# Altium footprint library SO.PcbLib: 20 footprints (part 1 of 2)
Each footprint in its own frame and in the unit in brackets; x right, y up, seen from the top. Pads: shape width x height; smd on the part's side, far side on the other; paste and mask are expansions set on the pad; w line width, h text height; cw(c..) or ccw(c..) is an arc to the next point about the centre after c.
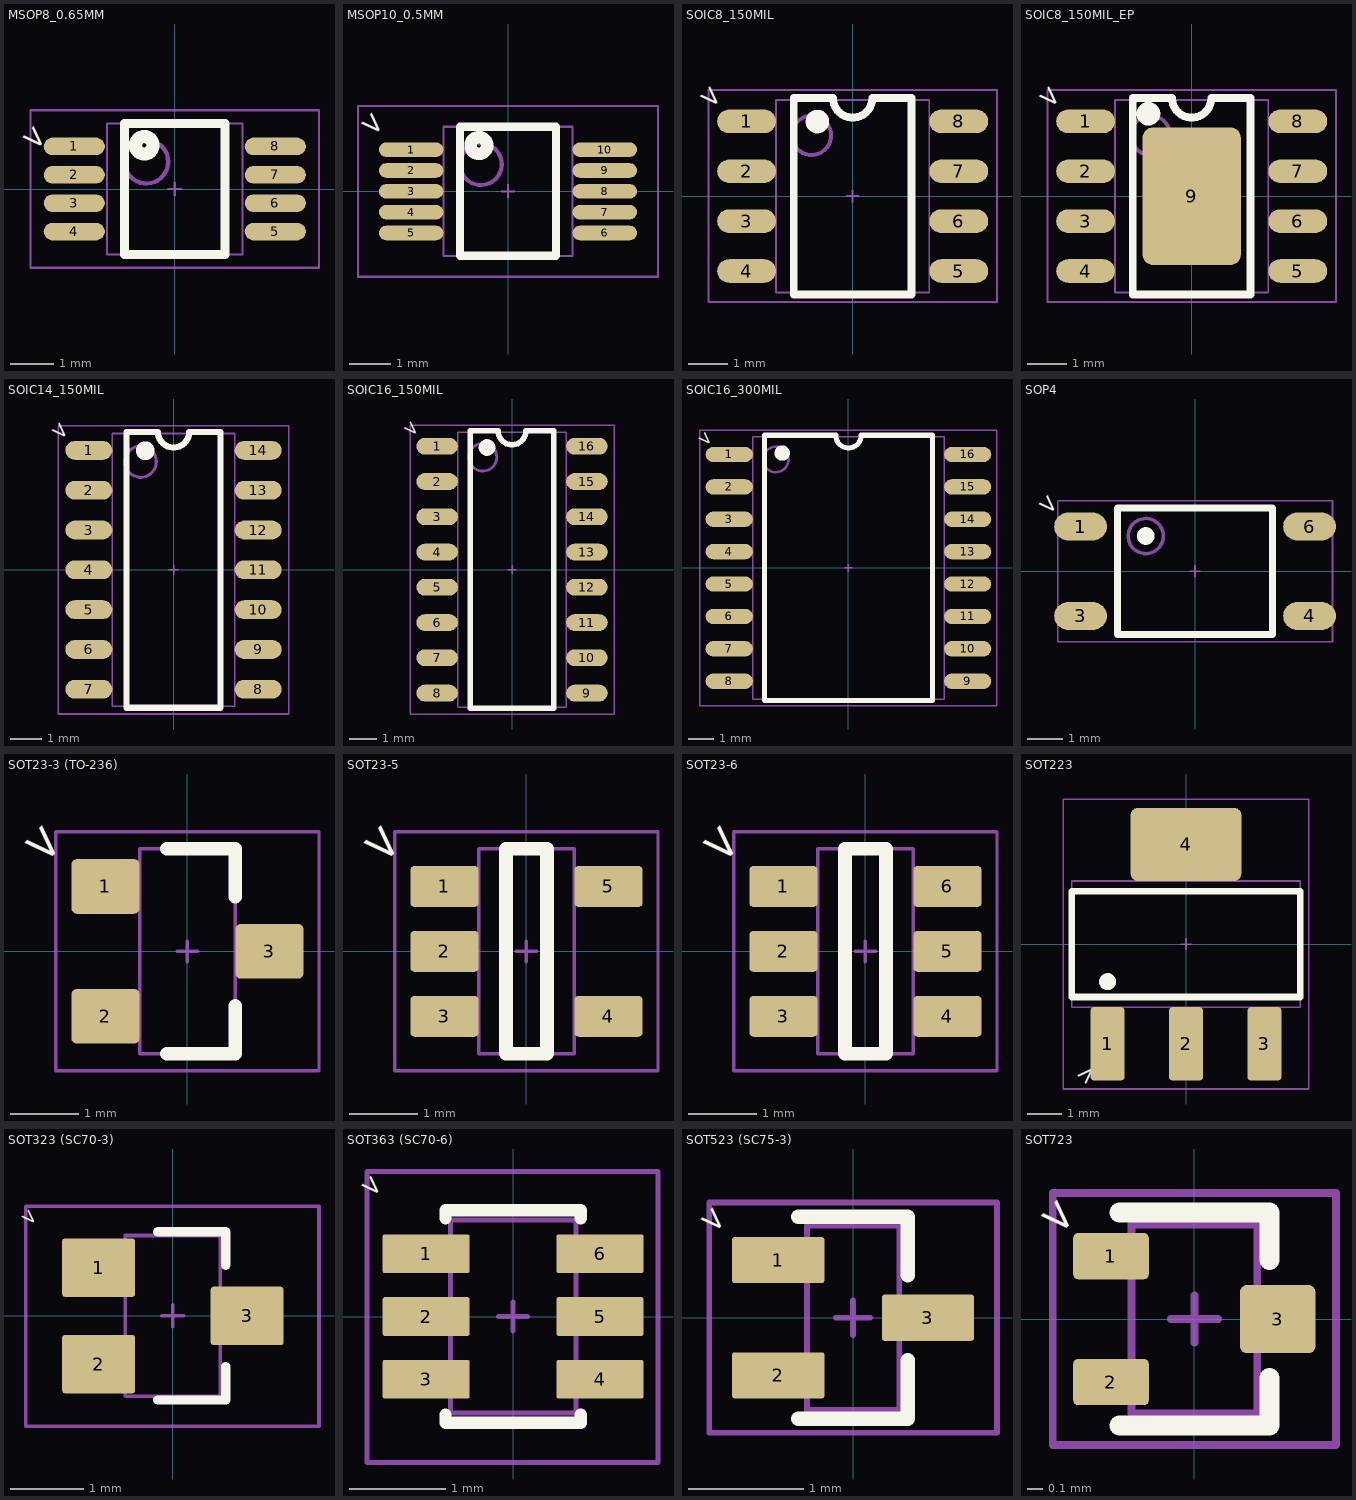
[diagram p0: the footprints below, top view; thin cyan lines are the x and y axes]

## MSOP8_0.65MM [mm]
height 1.1
pads (8):
  oval 1.4x0.4 smd mask+0.05: 1(-2.3,0.975) 2(-2.3,0.325) 3(-2.3,-0.325) 4(-2.3,-0.975) 5(2.3,-0.975) 6(2.3,-0.325) 7(2.3,0.325) 8(2.3,0.975)
Top Overlay:
  circle w0.3: c-0.7,1 r0.2
  lines w0.2: -1.15,-1.5 1.15,-1.5 1.15,1.5 -1.15,1.5 -1.15,-1.5
  text ">" at -3.565,1.212 h0.5
Top Assembly:
  circle w0.1: c-0.65,0.625 r0.5
  lines w0.05: -1.55,-1.5 1.55,-1.5 1.55,1.5 -1.55,1.5 -1.55,-1.5
Top Courtyard:
  lines w0.05: -3.3,-1.8 -3.3,1.8 3.3,1.8 3.3,-1.8 -3.3,-1.8
Top Component Center:
  lines w0.05: -0.15,-0.001 0.15,-0.001 ; 0,-0.151 0,0.149
3D body "MSOP8-3-0.65.STEP": height 1.1, standoff 0, extent -2.45,-1.59 2.45,1.51

## MSOP10_0.5MM [mm]
height 1.1
pads (10):
  oval 1.55x0.35 smd mask+0.05: 1(-2.325,1) 2(-2.325,0.5) 3(-2.325,0) 4(-2.325,-0.5) 5(-2.325,-1) 6(2.325,-1) 7(2.325,-0.5) 8(2.325,0) 9(2.325,0.5) 10(2.325,1)
Top Overlay:
  circle w0.3: c-0.7,1.1 r0.2
  lines w0.2: -1.15,-1.55 1.15,-1.55 1.15,1.55 -1.15,1.55 -1.15,-1.55
  text ">" at -3.59,1.662 h0.5
Top Assembly:
  circle w0.1: c-0.65,0.65 r0.5
  lines w0.05: -1.55,-1.55 1.55,-1.55 1.55,1.55 -1.55,1.55 -1.55,-1.55
Top Courtyard:
  lines w0.05: -3.6,-2.05 3.6,-2.05 3.6,2.05 -3.6,2.05 -3.6,-2.05
Top Component Center:
  lines w0.05: -0.15,0 0.15,0 ; 0,-0.15 0,0.15
3D body "VSSOP10 LD.step": height 1.1, standoff 0, extent -2.45,-1.55 2.45,1.55

## SOIC8_150MIL [mm]
height 1.75
pads (8):
  oval 1.5x0.6 smd mask+0.05: 1(-2.7,1.905) 2(-2.7,0.635) 3(-2.7,-0.635) 4(-2.7,-1.905) 5(2.7,-1.905) 6(2.7,-0.635) 7(2.7,0.635) 8(2.7,1.905)
Top Overlay:
  circle w0.3: c-0.9,1.9 r0.15
  lines w0.2: -1.5,-2.5 1.5,-2.5 1.5,2.5 0.5,2.5 cw(c0,2.5) -0.5,2.5 -1.5,2.5 -1.5,-2.5
  text ">" at -3.965,2.567 h0.5
Top Assembly:
  circle w0.1: c-1.05,1.55 r0.5
  lines w0.05: -1.95,-2.45 -1.95,2.45 1.95,2.45 1.95,-2.45 -1.95,-2.45
Top Courtyard:
  lines w0.05: -3.675,-2.7 -3.675,2.7 3.675,2.7 3.675,-2.7 -3.675,-2.7
Top Component Center:
  lines w0.05: -0.15,0 0.15,0 ; 0,-0.15 0,0.15
3D body "SOIC8_150MIL MD JEDEC.step": height 1.75, standoff 0, extent -3,-2.45 3,2.45

## SOIC8_150MIL_EP [mm]
height 1.75
pads (9):
  oval 1.5x0.6 smd mask+0.05: 1(-2.7,1.905) 2(-2.7,0.635) 3(-2.7,-0.635) 4(-2.7,-1.905) 5(2.7,-1.905) 6(2.7,-0.635) 7(2.7,0.635) 8(2.7,1.905)
  rrect20% 2.5x3.5 smd mask+0.05: 9(0,0)
Top Overlay:
  circle w0.3: c-1.1,2.1 r0.15
  lines w0.2: -1.5,-2.5 1.5,-2.5 1.5,2.5 0.5,2.5 cw(c0,2.5) -0.5,2.5 -1.5,2.5 -1.5,-2.5
  text ">" at -3.965,2.567 h0.5
Top Assembly:
  circle w0.1: c-1.05,1.55 r0.5
  lines w0.05: -1.95,-2.45 -1.95,2.45 1.95,2.45 1.95,-2.45 -1.95,-2.45
Top Courtyard:
  lines w0.05: -3.675,-2.7 -3.675,2.7 3.675,2.7 3.675,-2.7 -3.675,-2.7
Top Component Center:
  lines w0.05: -0.15,0 0.15,0 ; 0,-0.15 0,0.15
3D body "SOIC8_150MIL MD JEDEC.step": height 1.75, standoff 0, extent -3,-2.45 3,2.45

## SOIC14_150MIL [mm]
height 1.75
pads (14):
  oval 1.5x0.6 smd mask+0.05: 1(-2.7,3.81) 2(-2.7,2.54) 3(-2.7,1.27) 4(-2.7,0) 5(-2.7,-1.27) 6(-2.7,-2.54) 7(-2.7,-3.81) 8(2.7,-3.81) 9(2.7,-2.54) 10(2.7,-1.27) 11(2.7,0) 12(2.7,1.27) 13(2.7,2.54) 14(2.7,3.81)
Top Overlay:
  circle w0.3: c-0.9,3.8 r0.15
  lines w0.2: -1.5,-4.4 -1.5,4.4 -0.5,4.4 ccw(c0,4.4) 0.5,4.4 1.5,4.4 1.5,-4.4 -1.5,-4.4
  text ">" at -3.965,4.472 h0.5
Top Assembly:
  circle w0.1: c-1.05,3.45 r0.5
  lines w0.05: -1.95,-4.35 -1.95,4.35 1.95,4.35 1.95,-4.35 -1.95,-4.35
Top Courtyard:
  lines w0.05: -3.675,-4.6 -3.675,4.6 3.675,4.6 3.675,-4.6 -3.675,-4.6
Top Component Center:
  lines w0.05: -0.15,0 0.15,0 ; 0,-0.15 0,0.15
3D body "SOIC14_150MIL MD JEDEC.step": height 1.75, standoff 0, extent -3,-4.35 3,4.35

## SOIC16_150MIL [mm]
height 1.75
pads (16):
  oval 1.5x0.6 smd mask+0.05: 1(-2.7,4.445) 2(-2.7,3.175) 3(-2.7,1.905) 4(-2.7,0.635) 5(-2.7,-0.635) 6(-2.7,-1.905) 7(-2.7,-3.175) 8(-2.7,-4.445) 9(2.7,-4.445) 10(2.7,-3.175) 11(2.7,-1.905) 12(2.7,-0.635) 13(2.7,0.635) 14(2.7,1.905) 15(2.7,3.175) 16(2.7,4.445)
Top Overlay:
  circle w0.3: c-0.9,4.4 r0.15
  lines w0.2: -1.5,-5 -1.5,5 -0.5,5 ccw(c0,5) 0.5,5 1.5,5 1.5,-5 -1.5,-5
  text ">" at -3.965,5.107 h0.5
Top Assembly:
  circle w0.1: c-1.05,4.05 r0.5
  lines w0.05: -1.95,-4.95 -1.95,4.95 1.95,4.95 1.95,-4.95 -1.95,-4.95
Top Courtyard:
  lines w0.05: -3.675,-5.2 -3.675,5.2 3.675,5.2 3.675,-5.2 -3.675,-5.2
Top Component Center:
  lines w0.05: -0.15,0 0.15,0 ; 0,-0.15 0,0.15
3D body "SOIC16_150MIL MD JEDEC.step": height 1.75, standoff 0, extent -3,-4.95 3,4.95

## SOIC16_300MIL [mm]
height 2.65
pads (16):
  oval 1.85x0.6 smd mask+0.05: 1(-4.675,4.445) 2(-4.675,3.175) 3(-4.675,1.905) 4(-4.675,0.635) 5(-4.675,-0.635) 6(-4.675,-1.905) 7(-4.675,-3.175) 8(-4.675,-4.445) 9(4.675,-4.445) 10(4.675,-3.175) 11(4.675,-1.905) 12(4.675,-0.635) 13(4.675,0.635) 14(4.675,1.905) 15(4.675,3.175) 16(4.675,4.445)
Top Overlay:
  circle w0.3: c-2.6,4.5 r0.15
  lines w0.2: -3.3,-5.2 3.3,-5.2 3.3,5.2 0.5,5.2 cw(c0,5.2) -0.5,5.2 -3.3,5.2 -3.3,-5.2
  text ">" at -5.94,5.107 h0.5
Top Assembly:
  circle w0.1: c-2.85,4.25 r0.5
  lines w0.05: -3.75,-5.15 3.75,-5.15 3.75,5.15 -3.75,5.15 -3.75,-5.15
Top Courtyard:
  lines w0.05: -5.825,-5.4 5.825,-5.4 5.825,5.4 -5.825,5.4 -5.825,-5.4
Top Component Center:
  lines w0.05: -0.15,0 0.15,0 ; 0,-0.15 0,0.15
3D body "SOIC16_300MIL MD JEDEC.step": height 2.65, standoff 0, extent -5.15,-5.15 5.15,5.15

## SOP4 [mm]
height 1.2
pads (4):
  oval 1.5x0.8 smd mask+0.05: 1(-3.25,1.27) 3(-3.25,-1.27) 4(3.25,-1.27) 6(3.25,1.27)
Top Overlay:
  circle w0.25: c-1.4,1 r0.125
  lines w0.2: -2.2,-1.8 -2.2,1.8 2.2,1.8 2.2,-1.8 -2.2,-1.8
  text ">" at -4.515,1.932 h0.5
Top Assembly:
  circle w0.1: c-1.4,1 r0.5
  lines w0.05: -2.2,-1.8 2.2,-1.8 2.2,1.8 -2.2,1.8 -2.2,-1.8
Top Courtyard:
  lines w0.05: -3.9,-2 -3.9,2 3.9,2 3.9,-2 -3.9,-2
Top Component Center:
  lines w0.05: -0.15,0 0.15,0 ; 0,-0.15 0,0.15
3D body "TLP185.step": height 2.2, standoff 0, extent -3.514,-1.9 3.514,1.9

## SOT23-3 (TO-236) [mm]
height 1.1
pads (3):
  rrect20% 1x0.8 smd mask+0.05: 1(-1.2,0.95) 2(-1.2,-0.95) 3(1.2,0)
Top Overlay:
  lines w0.2: -0.3,-1.5 0.7,-1.5 0.7,-0.8 ; -0.3,1.5 0.7,1.5 0.7,0.8
  text ">" at -2.465,1.612 h0.5
Top Assembly:
  lines w0.05: -0.7,-1.5 0.7,-1.5 0.7,1.5 -0.7,1.5 -0.7,-1.5
Top Courtyard:
  lines w0.05: -1.925,-1.75 1.925,-1.75 1.925,1.75 -1.925,1.75 -1.925,-1.75
Top Component Center:
  lines w0.05: -0.15,0 0.15,0 ; 0,-0.15 0,0.15
3D body "SOT-23-3 (TO-236) MD.step": height 1.1, standoff 0, extent -1.32,-1.5 1.32,1.5

## SOT23-5 [mm]
height 1.3
pads (5):
  rrect20% 1x0.6 smd mask+0.05: 1(-1.2,0.95) 2(-1.2,0) 3(-1.2,-0.95) 4(1.2,-0.95) 5(1.2,0.95)
Top Overlay:
  lines w0.2: -0.3,-1.5 -0.3,1.5 0.3,1.5 0.3,-1.5 -0.3,-1.5
  text ">" at -2.465,1.612 h0.5
Top Assembly:
  lines w0.05: -0.7,-1.5 0.7,-1.5 0.7,1.5 -0.7,1.5 -0.7,-1.5
Top Courtyard:
  lines w0.05: -1.925,-1.75 1.925,-1.75 1.925,1.75 -1.925,1.75 -1.925,-1.75
Top Component Center:
  lines w0.05: -0.15,0 0.15,0 ; 0,-0.15 0,0.15
3D body "SOT-23-5 MD.step": height 1.3, standoff 0, extent -1.32,-1.5 1.32,1.5

## SOT23-6 [mm]
height 1.3
pads (6):
  rrect20% 1x0.6 smd mask+0.05: 1(-1.2,0.95) 2(-1.2,0) 3(-1.2,-0.95) 4(1.2,-0.95) 5(1.2,0) 6(1.2,0.95)
Top Overlay:
  lines w0.2: -0.3,-1.5 0.3,-1.5 0.3,1.5 -0.3,1.5 -0.3,-1.5
  text ">" at -2.465,1.612 h0.5
Top Assembly:
  lines w0.05: -0.7,-1.5 -0.7,1.5 0.7,1.5 0.7,-1.5 -0.7,-1.5
Top Courtyard:
  lines w0.05: -1.925,-1.75 -1.925,1.75 1.925,1.75 1.925,-1.75 -1.925,-1.75
Top Component Center:
  lines w0.05: -0.15,0 0.15,0 ; 0,-0.15 0,0.15
3D body "SOT-23-5 MD.step": height 1.3, standoff 0, extent -1.32,-1.5 1.32,1.5

## SOT223 [mm]
height 1.8
pads (4):
  rrect20% 1x2.15 smd mask+0.05: 1(-2.3,-2.925) 2(0,-2.925) 3(2.3,-2.925)
  rrect20% 3.25x2.15 smd mask+0.05: 4(0,2.925)
Top Overlay:
  circle w0.25: c-2.3,-1.1 r0.125
  lines w0.2: -3.35,-1.55 3.35,-1.55 3.35,1.55 -3.35,1.55 -3.35,-1.55
  text ">" at -2.962,-4.19 h0.5
Top Assembly:
  lines w0.05: -3.35,-1.85 3.35,-1.85 3.35,1.85 -3.35,1.85 -3.35,-1.85
Top Courtyard:
  lines w0.05: -3.6,-4.25 3.6,-4.25 3.6,4.25 -3.6,4.25 -3.6,-4.25
Top Component Center:
  lines w0.05: -0.15,0 0.15,0 ; 0,-0.15 0,0.15
3D body "SOT223 MD.step": height 1.8, standoff 0, extent -3.35,-3.5 3.35,3.5

## SOT323 (SC70-3) [mm]
pads (3):
  rrect10% 1x0.8 smd mask+0.05: 1(-1.016,0.66) 2(-1.016,-0.66) 3(1.016,0)
Top Overlay:
  lines w0.127: -0.206,-1.15 0.724,-1.15 ; -0.206,1.15 0.724,1.15 ; 0.725,-1.15 0.725,-0.694 ; 0.725,0.694 0.725,1.15
  text ">" at -2.106,1.365 h0.2
Top Assembly:
  lines w0.05: -0.65,-1.1 -0.65,1.1 0.65,1.1 0.65,-1.1 -0.65,-1.1
Top Courtyard:
  lines w0.05: -2.013,-1.513 2,-1.513 2,1.5 -2.013,1.5 -2.013,-1.513
Top Component Center:
  lines w0.05: -0.15,0 0.15,0 ; 0,-0.15 0,0.15
3D body "User Library-sc70-3.STEP": height 1, standoff 0, extent -1.15,-1.05 1.15,1.05

## SOT363 (SC70-6) [mm]
pads (6):
  rrect10% 0.9x0.4 smd mask+0.05: 1(-0.9,0.65) 2(-0.9,0) 3(-0.9,-0.65) 4(0.9,-0.65) 5(0.9,0) 6(0.9,0.65)
Top Overlay:
  lines w0.127: -0.7,-1.018 -0.7,-1.1 0.7,-1.1 0.7,-1.018 ; -0.7,1.018 -0.7,1.1 0.7,1.1 0.7,1.018
  text ">" at -1.606,1.365 h0.2
Top Assembly:
  lines w0.05: -0.65,-1 -0.65,1 0.65,1 0.65,-1 -0.65,-1
Top Courtyard:
  lines w0.05: -1.513,-1.513 1.5,-1.513 1.5,1.5 -1.513,1.5 -1.513,-1.513
Top Component Center:
  lines w0.05: -0.15,0 0.15,0 ; 0,-0.15 0,0.15
3D body "SC70-6.step": height 1.1, standoff 0, extent -1.05,-1 1.05,1

## SOT523 (SC75-3) [mm]
pads (3):
  rrect10% 0.8x0.4 smd mask+0.05: 1(-0.65,0.5) 2(-0.65,-0.5) 3(0.65,0)
Top Overlay:
  lines w0.127: -0.476,-0.876 0.476,-0.876 0.476,-0.369 ; -0.476,0.876 0.476,0.876 0.476,0.368
  text ">" at -1.356,0.865 h0.2
Top Assembly:
  lines w0.05: -0.4,-0.8 -0.4,0.8 0.4,0.8 0.4,-0.8 -0.4,-0.8
Top Courtyard:
  lines w0.05: -1.25,-1 1.25,-1 1.25,1 -1.25,1 -1.25,-1
Top Component Center:
  lines w0.05: -0.15,0 0.15,0 ; 0,-0.15 0,0.15
3D body "User Library-SOT-523.STEP": height 0.8, standoff 0, extent -0.8,-0.8 0.8,0.8

## SOT723 [mm]
pads (3):
  rrect20% 0.48x0.294 smd mask+0.05: 1(-0.53,0.4) 2(-0.53,-0.4)
  rrect20% 0.48x0.434 smd mask+0.05: 3(0.53,0)
Top Overlay:
  lines w0.127: -0.476,-0.676 0.476,-0.676 0.476,-0.376 ; -0.476,0.676 0.476,0.676 0.476,0.376
  text ">" at -1.006,0.665 h0.2
Top Assembly:
  lines w0.05: -0.4,-0.6 -0.4,0.6 0.4,0.6 0.4,-0.6 -0.4,-0.6
Top Courtyard:
  lines w0.05: -0.9,-0.8 0.9,-0.8 0.9,0.8 -0.9,0.8 -0.9,-0.8
Top Component Center:
  lines w0.05: -0.15,0 0.15,0 ; 0,-0.15 0,0.15
3D body "SOT-723.step": height 0.45, standoff -0.01, extent -0.52,-0.625 0.53,0.625